# Altium footprint library SamacSys.PcbLib: 89 footprints (part 1 of 6)
Each footprint in its own frame and in the unit in brackets; x right, y up, seen from the top. Pads: shape width x height; smd on the part's side, far side on the other; paste and mask are expansions set on the pad; w line width, h text height; cw(c..) or ccw(c..) is an arc to the next point about the centre after c.
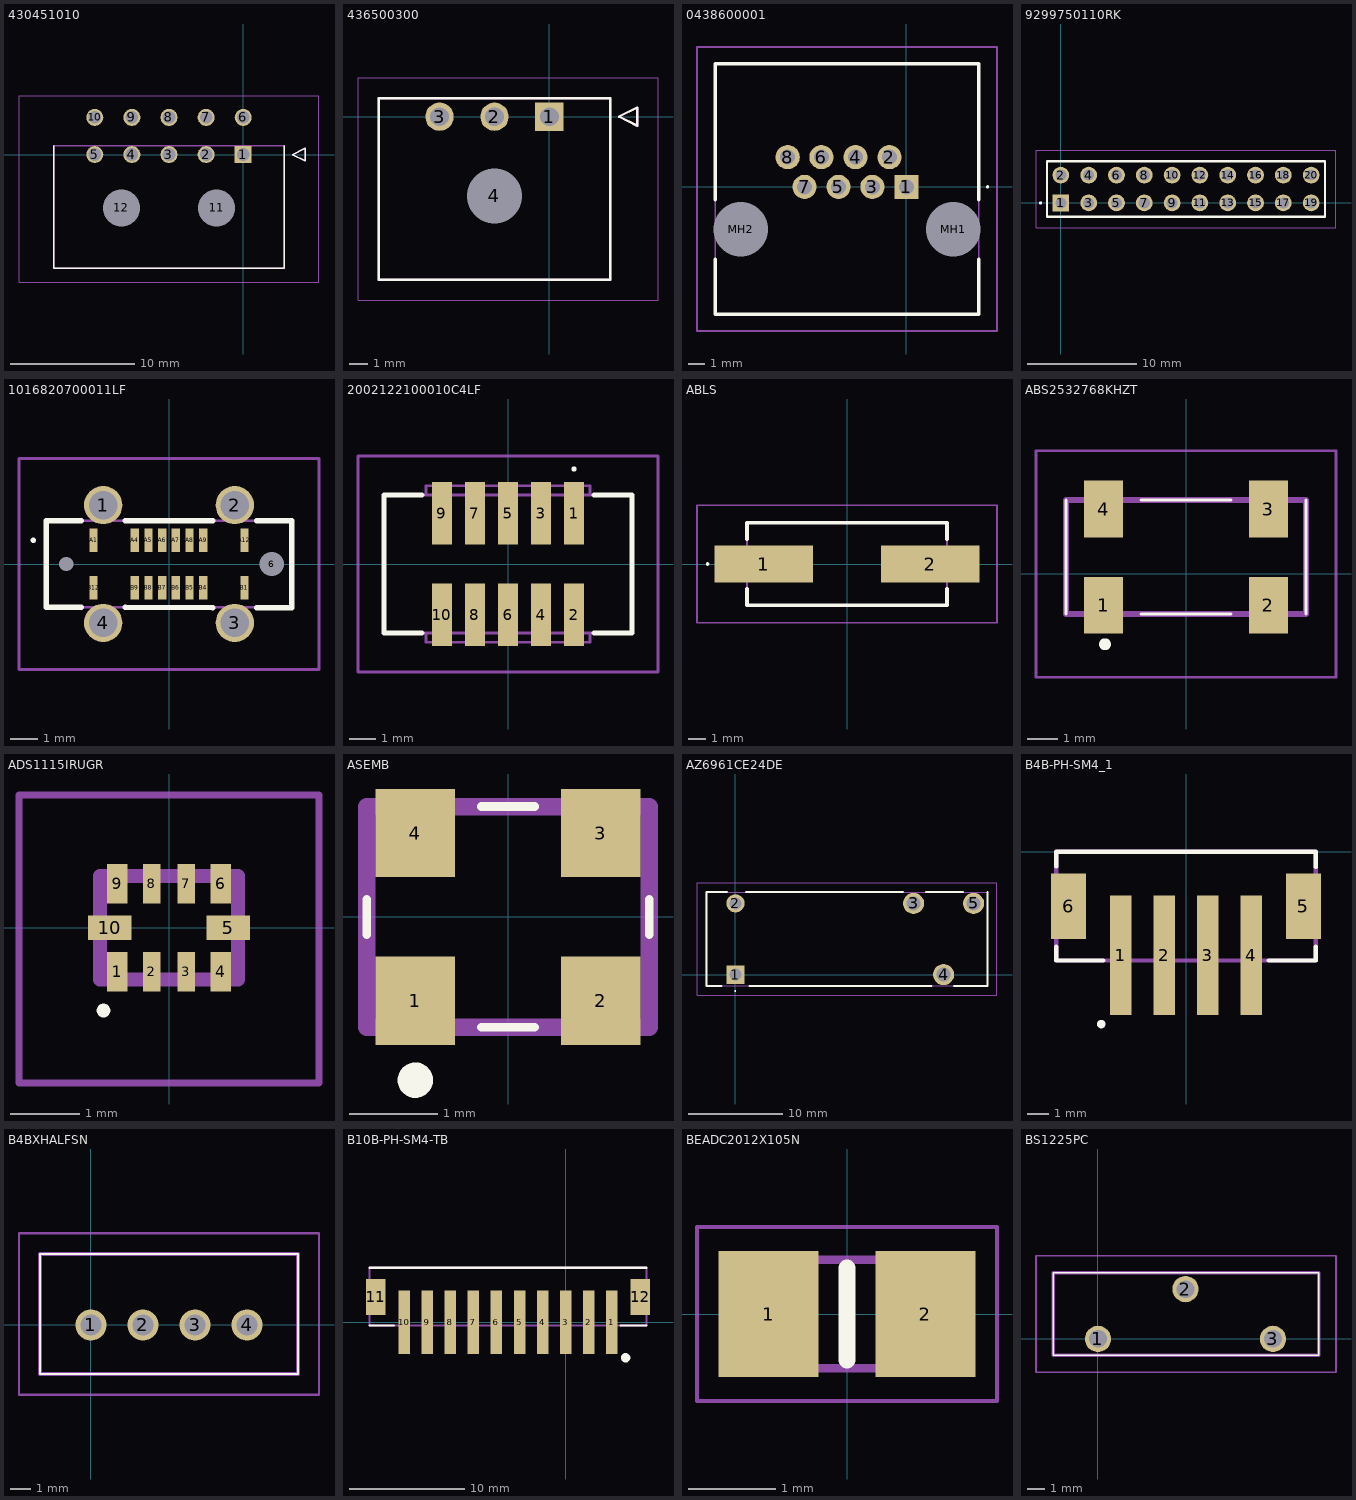
[diagram p0: the footprints below, top view; thin cyan lines are the x and y axes]

## 430451010 [mm]
pads (12):
  rect 1.37x1.37 hole 1.02: 1(0,0)
  round 1.37 hole 1.02: 2(-3,0) 3(-6,0) 4(-9,0) 5(-12,0) 6(0,3) 7(-3,3) 8(-6,3) 9(-9,3) 10(-12,3)
  round 1.5 hole 3 unplated: 11(-2.15,-4.32) 12(-9.85,-4.32)
Top Overlay:
  lines w0.127: -15.325,0.705 -15.325,-9.205 3.325,-9.205 3.325,0.705 ; 4,0 5,0.5 5,-0.5 4,0
Mechanical 13:
  lines w0.127: -15.325,-9.205 -15.325,0.705 3.325,0.705 3.325,-9.205 -15.325,-9.205 ; 4,0 5,0.5 5,-0.5 4,0
Mechanical 15:
  lines w0.05: -18.127,-10.332 -18.127,4.761 6.127,4.761 6.127,-10.332 -18.127,-10.332
3D body "430451000.stp": height 8.71, standoff -3.24, extent -15.575,-8.905 3.575,3.335

## 436500300 [mm]
pads (4):
  rect 1.55x1.55 hole 1.02: 1(0,0)
  round 1.55 hole 1.02: 2(-3,0) 3(-6,0)
  round 1.5 hole 3 unplated: 4(-3,-4.32)
Top Overlay:
  lines w0.127: -9.325,-8.9 -9.325,1 3.325,1 3.325,-8.9 -9.325,-8.9 ; 3.8,0 4.8,0.5 4.8,-0.5 3.8,0
Mechanical 13:
  lines w0.127: -9.325,-8.9 -9.325,1 3.325,1 3.325,-8.9 -9.325,-8.9 ; 3.8,0 4.8,0.5 4.8,-0.5 3.8,0
Mechanical 15:
  lines w0.05: -10.452,-10.027 -10.452,2.127 5.927,2.127 5.927,-10.027 -10.452,-10.027
3D body "43650-0300.stp": height 12.2, standoff 2.3, extent -9.285,-9.01 3.365,-0.14

## 0438600001 [mm]
pads (10):
  rect 1.446x1.446 hole 0.89: 1(0,0)
  round 1.446 hole 0.89: 2(-1.02,1.78) 3(-2.04,0) 4(-3.05,1.78) 5(-4.07,0) 6(-5.09,1.78) 7(-6.1,0) 8(-7.11,1.78)
  round 1.625 hole 3.25 unplated: MH1(2.79,-2.54) MH2(-9.91,-2.54)
Top Overlay:
  lines w0.1: 4.8,0 cw(c4.85,0) 4.9,0 cw(c4.85,0) 4.8,0
  lines w0.2: -11.435,-4.32 -11.435,-7.62 4.315,-7.62 4.315,-4.32 ; -11.435,-0.76 -11.435,7.37 4.315,7.37 4.315,-0.76
Mechanical 13:
  lines w0.1: -11.435,-7.62 -11.435,7.37 4.315,7.37 4.315,-7.62 -11.435,-7.62
Mechanical 15:
  lines w0.1: -12.535,-8.62 -12.535,8.37 5.415,8.37 5.415,-8.62 -12.535,-8.62
3D body "0438600001.stp": height 13.12, standoff -3.23, extent -11.46,-7.623 4.344,7.363

## 9299750110RK [mm]
pads (20):
  rect 1.53x1.53 hole 1.02: 1(0,0)
  round 1.53 hole 1.02: 2(0,2.54) 3(2.54,0) 4(2.54,2.54) 5(5.08,0) 6(5.08,2.54) 7(7.62,0) 8(7.62,2.54) 9(10.16,0) 10(10.16,2.54) 11(12.7,0) 12(12.7,2.54) 13(15.24,0) 14(15.24,2.54) 15(17.78,0) 16(17.78,2.54) 17(20.32,0) 18(20.32,2.54) 19(22.86,0) 20(22.86,2.54)
Top Overlay:
  lines w0.2: -1.9,0 ccw(c-1.85,0) -1.8,0 ; -1.9,0 cw(c-1.85,0) -1.8,0 ; -1.9,0 ccw(c-1.85,0) -1.8,0 ; -1.27,-1.27 24.13,-1.27 24.13,3.81 -1.27,3.81 -1.27,-1.27
Mechanical 13:
  lines w0.1: -1.27,-1.27 24.13,-1.27 24.13,3.81 -1.27,3.81 -1.27,-1.27
Mechanical 15:
  lines w0.1: -2.27,-2.27 25.13,-2.27 25.13,4.81 -2.27,4.81 -2.27,-2.27
3D body "929975-01-10-RK.stp": height 8.36, standoff -5, extent -1.27,-1.27 24.13,3.81

## 1016820700011LF [mm]
pads (22):
  round 1.4 hole 1.04: 1(-2.4,2.15) 2(2.4,2.15) 3(2.4,-2.15) 4(-2.4,-2.15)
  round 0.26 hole 0.52 unplated: 5(-3.75,0)
  round 0.445 hole 0.89 unplated: 6(3.75,0)
  rect 0.3x0.87 smd: A1(-2.75,0.865) A4(-1.25,0.865) A5(-0.75,0.865) A6(-0.25,0.865) A7(0.25,0.865) A8(0.75,0.865) A9(1.25,0.865) A12(2.75,0.865) B1(2.75,-0.865) B4(1.25,-0.865) B5(0.75,-0.865) B6(0.25,-0.865) B7(-0.25,-0.865) B8(-0.75,-0.865) B9(-1.25,-0.865) B12(-2.75,-0.865)
Top Overlay:
  lines w0.1: -5,0.865 ccw(c-4.95,0.865) -4.9,0.865 ccw(c-4.95,0.865) -5,0.865
  lines w0.2: -3.2,-1.58 -4.47,-1.58 -4.47,1.58 -3.2,1.58 ; -1.6,-1.58 1.6,-1.6 ; -1.6,1.58 1.6,1.58 ; 3.2,-1.6 4.47,-1.6 4.47,1.58 3.2,1.58
Mechanical 13:
  lines w0.1: -4.47,-1.58 -4.47,1.58 4.47,1.58 4.47,-1.58 -4.47,-1.58
Mechanical 15:
  lines w0.1: -5.47,-3.85 -5.47,3.85 5.47,3.85 5.47,-3.85 -5.47,-3.85
3D body "10168207-00011LF.stp": height 7.37, standoff -0.98, extent -5,-2.301 5,2.299

## 2002122100010C4LF [mm]
pads (10):
  rect 0.76x2.4 smd: 1(2.54,1.95) 2(2.54,-1.95) 3(1.27,1.95) 4(1.27,-1.95) 5(0,1.95) 6(0,-1.95) 7(-1.27,1.95) 8(-1.27,-1.95) 9(-2.54,1.95) 10(-2.54,-1.95)
Top Overlay:
  lines w0.1: 2.54,3.6 ccw(c2.54,3.65) 2.54,3.7 ccw(c2.54,3.65) 2.54,3.6
  lines w0.2: -3.3,-2.65 -4.765,-2.65 -4.765,2.65 -3.3,2.65 ; 3.3,-2.65 4.765,-2.65 4.765,2.65 3.3,2.65
Mechanical 13:
  lines w0.1: -3.15,-2.65 -3.15,-3 3.15,-3 3.15,-2.65 ; -3.15,2.65 -3.15,3 3.15,3 3.15,2.65 ; -4.765,-2.65 4.765,-2.65 4.765,2.65 -4.765,2.65 -4.765,-2.65
Mechanical 15:
  lines w0.1: -5.765,-4.15 5.765,-4.15 5.765,4.15 -5.765,4.15 -5.765,-4.15
3D body "20021221-00010C4LF.stp": height 5.6, standoff 0, extent -4.769,-2.746 4.761,2.754

## ABLS [mm]
pads (2):
  rect 5.6x2.1 smd: 1(-4.75,0) 2(4.75,0)
Top Overlay:
  lines w0.1: -8,0 ccw(c-7.95,0) -7.9,0 ccw(c-7.95,0) -8,0
  lines w0.2: -5.7,-1.4 -5.7,-2.35 5.7,-2.35 5.7,-1.4 ; -5.7,1.4 -5.7,2.35 5.7,2.35 5.7,1.4
Mechanical 13:
  lines w0.1: -5.7,-2.35 5.7,-2.35 5.7,2.35 -5.7,2.35 -5.7,-2.35
Mechanical 15:
  lines w0.1: -8.55,-3.35 8.55,-3.35 8.55,3.35 -8.55,3.35 -8.55,-3.35
3D body "ABLS3-8.000MHZ-D4Y-T.stp": height 4.2, standoff 0, extent -6.35,-2.35 6.35,2.35

## ABS2532768KHZT [mm]
pads (4):
  rect 1.3x1.9 smd: 1(-2.75,-1.05) 2(2.75,-1.05) 3(2.75,2.15) 4(-2.75,2.15)
Top Overlay:
  lines w0.1: -4,-1.35 -4,2.45 ; -1.5,-1.35 1.5,-1.35 ; -1.5,2.45 1.5,2.45 ; 4,-1.35 4,2.45
  lines w0.2: -2.8,-2.35 cw(c-2.7,-2.35) -2.6,-2.35 cw(c-2.7,-2.35) -2.8,-2.35
Mechanical 13:
  lines w0.2: -4,-1.35 4,-1.35 4,2.45 -4,2.45 -4,-1.35
Mechanical 15:
  lines w0.1: -5,-3.45 5,-3.45 5,4.1 -5,4.1 -5,-3.45
3D body "ABS25-32.768KHZ-6-T.stp": height 2.66, standoff 0, extent -4,-1.68 4,2.32

## ADS1115IRUGR [mm]
pads (10):
  rect 0.3x0.575 smd: 1(-0.75,-0.638) 4(0.75,-0.638) 6(0.75,0.638) 9(-0.75,0.638)
  rect 0.25x0.575 smd: 2(-0.25,-0.638) 3(0.25,-0.638) 7(0.25,0.638) 8(-0.25,0.638)
  rect 0.63x0.35 smd: 5(0.86,0) 10(-0.86,0)
Top Overlay:
  lines w0.1: -1,-1.2 cw(c-0.95,-1.2) -0.9,-1.2 cw(c-0.95,-1.2) -1,-1.2
Mechanical 13:
  lines w0.2: -1,-0.75 -1,0.75 1,0.75 1,-0.75 -1,-0.75
Mechanical 15:
  lines w0.1: -2.175,-2.25 -2.175,1.925 2.175,1.925 2.175,-2.25 -2.175,-2.25
3D body "ADS1115IRUGR.stp": height 0.4, standoff 0, extent -1,-0.75 1,0.75

## ASEMB [mm]
pads (4):
  rect 0.9x1 smd: 1(-1.05,-0.95) 2(1.05,-0.95) 3(1.05,0.95) 4(-1.05,0.95)
Top Overlay:
  circle w0.2: c-1.05,-1.85 r0.1
  lines w0.1: -1.6,-0.2 -1.6,0.2 ; -0.3,-1.25 0.3,-1.25 ; -0.3,1.25 0.3,1.25 ; 1.6,-0.2 1.6,0.2
Mechanical 13:
  lines w0.2: -1.6,-1.25 -1.6,1.25 1.6,1.25 1.6,-1.25 -1.6,-1.25
3D body "ASEMB-50.000MHZ-LC-T.stp": height 0.91, standoff 0.01, extent -1.6,-1.25 1.6,1.25

## AZ6961CE24DE [mm]
pads (5):
  rect 1.95x1.95 hole 1.3: 1(0,0)
  round 1.95 hole 1.3: 2(0,7.6)
  round 2.25 hole 1.5: 3(19,7.6) 4(22.2,0) 5(25.4,7.6)
Top Overlay:
  lines w0.1: 0,-1.8 ccw(c0,-1.75) 0,-1.7 ccw(c0,-1.75) 0,-1.8
  lines w0.2: -1.5,-1.2 -3.1,-1.2 -3.1,8.8 -0.9,8.8 ; 1.1,8.8 17.9,8.8 ; 1.5,-1.2 20.9,-1.2 ; 20.3,8.8 24.3,8.8 ; 23.3,-1.2 26.9,-1.2 26.9,8.8
Mechanical 13:
  lines w0.1: -3.1,-1.2 26.9,-1.2 26.9,8.8 -3.1,8.8 -3.1,-1.2
Mechanical 15:
  lines w0.1: -4.1,-2.2 27.9,-2.2 27.9,9.8 -4.1,9.8 -4.1,-2.2
3D body "AZ696-1CE-24DE.stp": height 16.6, standoff -5, extent -3.1,-1.2 26.9,8.8

## B4B-PH-SM4_1 [mm]
pads (6):
  rect 1x5.5 smd: 1(-3,-4.75) 2(-1,-4.75) 3(1,-4.75) 4(3,-4.75)
  rect 1.6x3 smd: 5(5.4,-2.5) 6(-5.4,-2.5)
Top Overlay:
  circle w0.2: c-3.9,-7.925 r0.095
  lines w0.2: -5.975,-4.367 -5.975,-5 -3.8,-5 ; -5.975,-0.677 -5.975,0 5.975,0 5.975,-0.699 ; 3.8,-5 5.975,-5 5.975,-4.367
Mechanical 13:
  lines w0.2: -5.975,-5 5.975,-5 5.975,0 -5.975,0 -5.975,-5
3D body "B4B-PH-SM4-TB_LF__SN_.stp": height 6.8, standoff 0, extent -5.978,-7.03 5.972,-0.03

## B4BXHALFSN [mm]
pads (4):
  round 1.5 hole 1: 1(0,0) 2(2.5,0) 3(5,0) 4(7.5,0)
Top Overlay:
  lines w0.1: -2.45,-2.35 -2.45,3.4 9.95,3.4 9.95,-2.35 -2.45,-2.35
Mechanical 13:
  lines w0.2: -2.45,-2.35 -2.45,3.4 9.95,3.4 9.95,-2.35 -2.45,-2.35
Mechanical 15:
  lines w0.1: -3.45,-3.35 -3.45,4.4 10.95,4.4 10.95,-3.35 -3.45,-3.35
3D body "B4B-XH-A_LF__SN_.stp": height 7.52, standoff -2.88, extent -2.454,-2.355 9.946,3.395

## B10B-PH-SM4-TB [mm]
pads (12):
  rect 1x5.5 smd: 1(4,0) 2(2,0) 3(0,0) 4(-2,0) 5(-4,0) 6(-6,0) 7(-8,0) 8(-10,0) 9(-12,0) 10(-14,0)
  rect 1.7x3.1 smd: 11(-16.45,2.2) 12(6.45,2.2)
Top Overlay:
  circle w0.4: c5.195,-3.067 r0.206
  lines w0.2: -17,-0.275 -14.88,-0.275 ; -17,4.725 7,4.725 ; 4.782,-0.275 7,-0.275
Mechanical 13:
  lines w0.2: -17,-0.275 7,-0.275 7,4.725 -17,4.725 -17,-0.275

## BEADC2012X105N [mm]
pads (2):
  rect 1.15x1.45 smd: 1(-0.9,0) 2(0.9,0)
Top Overlay:
  lines w0.2: 0,-0.525 0,0.525
Mechanical 13:
  lines w0.1: -1,-0.625 1,-0.625 1,0.625 -1,0.625 -1,-0.625
Mechanical 15:
  lines w0.05: -1.725,-1 1.725,-1 1.725,1 -1.725,1 -1.725,-1
3D body "BLM21PG300SN1D.stp": height 1.05, standoff 0, extent -1,-0.625 1,0.625

## BS1225PC [mm]
pads (3):
  round 1.53 hole 1.02: 1(0,0) 2(5.08,2.89) 3(10.16,0)
Top Overlay:
  lines w0.1: -2.6,-0.945 12.82,-0.945 12.82,3.835 -2.6,3.835 -2.6,-0.945
Mechanical 13:
  lines w0.2: -2.6,-0.945 12.82,-0.945 12.82,3.835 -2.6,3.835 -2.6,-0.945
Mechanical 15:
  lines w0.1: -3.6,-1.945 13.82,-1.945 13.82,4.835 -3.6,4.835 -3.6,-1.945
3D body "BS-1225-PC.stp": height 8.43, standoff -5, extent -2.6,-0.945 12.82,3.835